# EAGLE library part LT3652IMSE#PBF (library LT3652IMSE#PBF)
Battery Management Power Tracking 2A Battery Charger for Solar Power Source: Datasheet <https://www.analog.com/media/en/technical-documentation/data-sheets/3652fe.pdf>
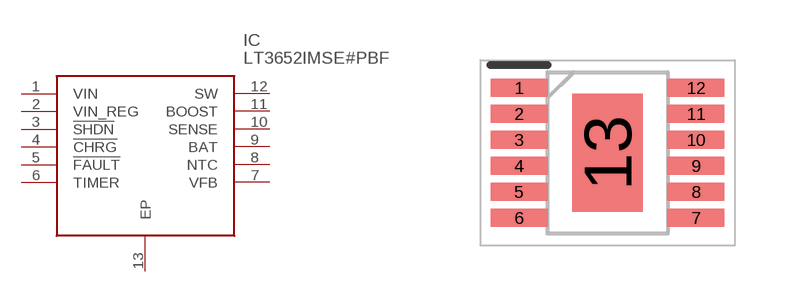
[diagram p0: symbol with the pads of SOP65P490X110-13N; footprint SOP65P490X110-13N]

Designator prefix IC

## LT3652IMSE#PBF (Description: Battery Management Power Tracking 2A Battery Charger for Solar Power; Height: 1.1mm; Manufacturer_Name: Analog Devices; Manufacturer_Part_Number: LT3652IMSE#PBF; Mouser_Part_Number: 584-LT3652IMSE#PBF; Mouser_Price-Stock: https://www.mouser.co.uk/ProductDetail/Analog-Devices/LT3652IMSEPBF?qs=hVkxg5c3xu%2FU%2FMmx%252BnQrjg%3D%3D)  [SOP65P490X110-13N]
1  VIN
2  VIN_REG
3  !SHDN
4  !CHRG
5  !FAULT
6  TIMER
7  VFB
8  NTC
9  BAT
10  SENSE
11  BOOST
12  SW
13  EP

## Footprint SOP65P490X110-13N (pad centres in mm)
MSE 12-LEAD_1
smd 1.425 x 0.45: 1 -2.212,1.625; 2 -2.212,0.975; 3 -2.212,0.325; 4 -2.212,-0.325; 5 -2.212,-0.975; 6 -2.212,-1.625; 7 2.212,-1.625; 8 2.212,-0.975; 9 2.212,-0.325; 10 2.212,0.325; 11 2.212,0.975; 12 2.212,1.625
smd 1.753 x 2.947: 13 0,0